# Altium schematic symbol library T_Echo_lite.SchLib: 27 symbols
Pins are listed as number, name and electrical type; pins without a type are passive.

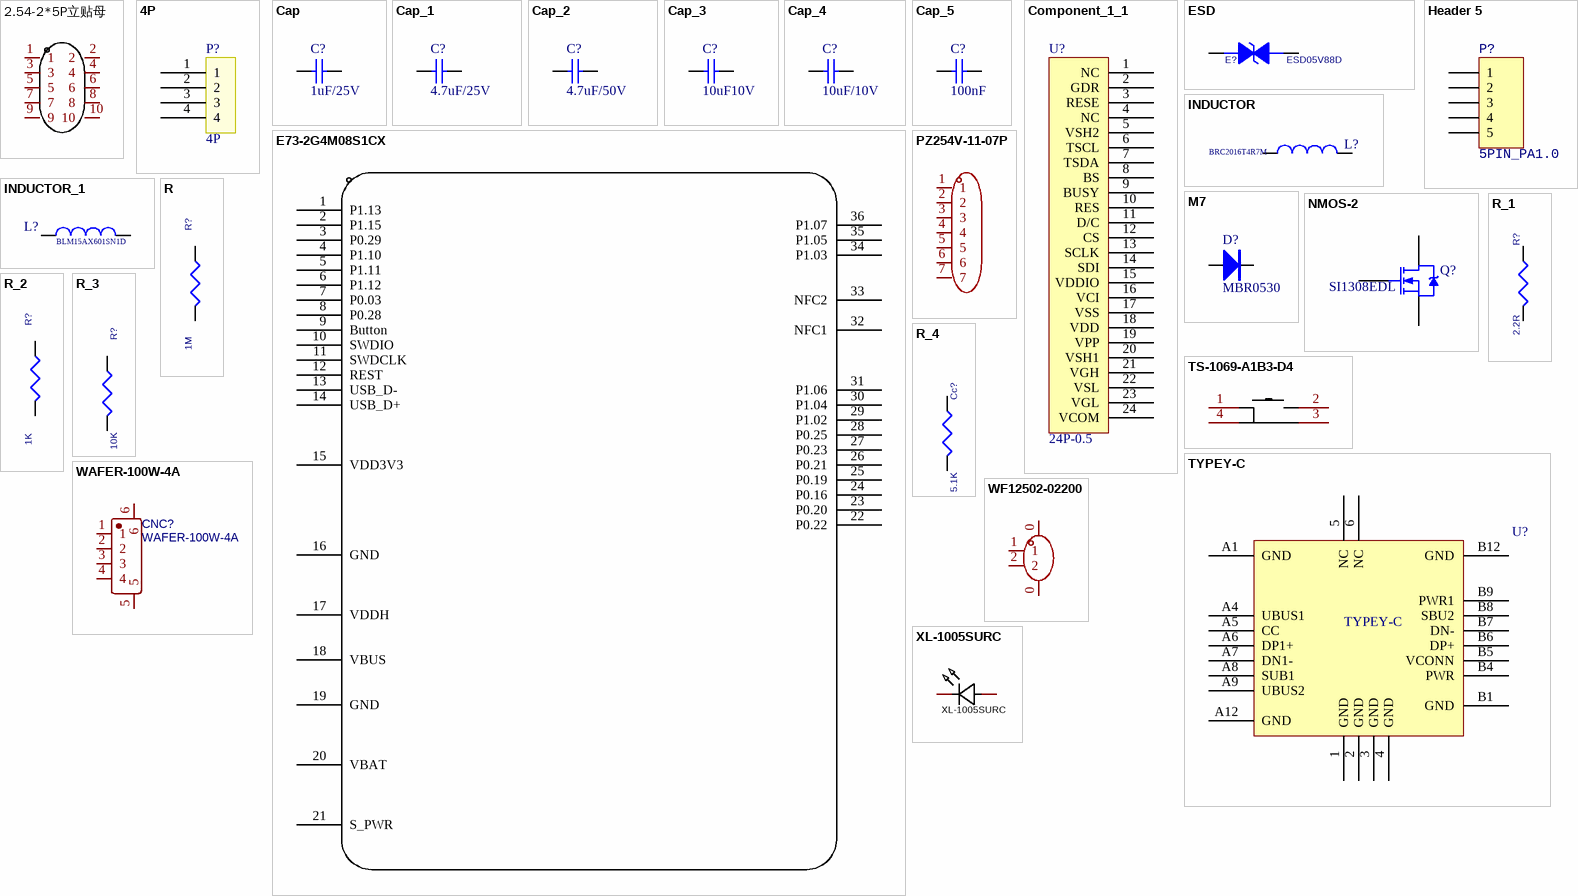
[diagram p0: symbols 2.54-2*5P立贴母 to XL-1005SURC]

## 2.54-2*5P立贴母
designator H?  (value not drawn)
Manufacturer: BOOMELE(博穆精密); Symbol: C843271; Add into BOM: yes; Holes Structure: 2x5P; Pitch: 2.54mm; Circular Hole / Square Hole: 方孔; Number of Holes: 10P; Current Rating (Max): 2.5A; Holes Direction: 顶部; Soldering Temperature(Max): 220℃@10S; Name: 2.54-2*5P立贴母; Device: 2.54-2*5P立贴母; LCSC Part Name: 间距:2.54mm 2x5P 立贴; Supplier Part: C843271; Manufacturer Part: 2.54-2*5P立贴母; Supplier Footprint: SMD,P=2.54mm; JLCPCB Part Class: Extended Part; Datasheet: https://atta.szlcsc.com/upload/public/pdf/source/20180815/C261072_7CA41729AB6C8E669AE33436BB9EABDF.pdf; Supplier: LCSC; Convert to PCB: yes; Row Spacing: 2.54mm; Mounting Type: 立贴; Number of Rows: 双排; Voltage Rating (Max): -; Insulation Height: 8.5mm; Contact Material: 黄铜; Contact Plating: 金; Operating Temperature Range: -55℃~+105℃
footprint CONN-SMD_C843271
3D model CONN-SMD_C843271
footprint CONN-SMD_C843271
pins: 1, 2, 3, 4, 5, 6, 7, 8, 9, 10

## 4P
designator P?
footprint HDR-TH_4P-P2.54-V
footprint HDR-TH_4P-P2.54-V
pins: 1, 2, 3, 4

## Cap
designator C?, comment 1uF/25V
Capacitor; Value: 100pF; Published: 8-Jun-2000; LatestRevisionDate: 17-Jul-2002; LatestRevisionNote: Re-released for DXP Platform.; PackageReference: RAD-0.3; Publisher: Altium Limited
footprint LC-0603_C
footprint LC-0805_C
pins: 1, 2

## Cap_1
designator C?, comment 4.7uF/25V
Capacitor; Value: 100pF; Published: 8-Jun-2000; LatestRevisionDate: 17-Jul-2002; LatestRevisionNote: Re-released for DXP Platform.; PackageReference: RAD-0.3; Publisher: Altium Limited
footprint LC-0603_C
footprint LC-0805_C
pins: 1, 2

## Cap_2
designator C?, comment 4.7uF/50V
Capacitor; Value: 100pF; Published: 8-Jun-2000; LatestRevisionDate: 17-Jul-2002; LatestRevisionNote: Re-released for DXP Platform.; PackageReference: RAD-0.3; Publisher: Altium Limited
footprint LC-0603_C
footprint LC-0805_C
footprint LC-0805_C
pins: 1, 2

## Cap_3
designator C?, comment 10uF10V
Capacitor; Value: 100pF; Published: 8-Jun-2000; LatestRevisionDate: 17-Jul-2002; LatestRevisionNote: Re-released for DXP Platform.; PackageReference: RAD-0.3; Publisher: Altium Limited
footprint LC-0603_C
footprint LC-0402_C
pins: 1, 2

## Cap_4
designator C?, comment 10uF/10V
Capacitor; Value: 100pF; Published: 8-Jun-2000; LatestRevisionDate: 17-Jul-2002; LatestRevisionNote: Re-released for DXP Platform.; PackageReference: RAD-0.3; Publisher: Altium Limited
footprint LC-0603_C
footprint LC-0402_C
pins: 1, 2

## Cap_5
designator C?, comment 100nF
Capacitor; Value: 100pF; Published: 8-Jun-2000; LatestRevisionDate: 17-Jul-2002; LatestRevisionNote: Re-released for DXP Platform.; PackageReference: RAD-0.3; Publisher: Altium Limited
footprint LC-0603_C
footprint LC-0402_C
pins: 1, 2

## Component_1_1
designator U?, comment 24P-0.5
footprint CONN-SMD_24P_0.5K-A-24PBF
footprint FPC-SMD_24P-P0.50_XUNPU_FPC-0.5AD-24PB
pins: 1 NC, 2 GDR, 3 RESE, 4 NC, 5 VSH2, 6 TSCL, 7 TSDA, 8 BS, 9 BUSY, 10 RES, 11 D/C, 12 CS, 13 SCLK, 14 SDI, 15 VDDIO, 16 VCI, 17 VSS, 18 VDD, 19 VPP, 20 VSH1, 21 VGH, 22 VSL, 23 VGL, 24 VCOM

## E73-2G4M08S1CX
designator U??  (value not drawn)
Manufacturer: EBYTE(亿佰特); Add into BOM: yes; Name: E73-2G4M08S1CX; Symbol: E73-2G4M08S1CX; Device: E73-2G4M08S1CX; LCSC Part Name: nRF52840 2.4GHz BLE4.2/5.0 低功耗蓝牙模块 OTA窜升级ARM; Supplier Part: C2764963; Manufacturer Part: E73-2G4M08S1CX; Supplier Footprint: SMD,13x18mm; JLCPCB Part Class: Extended Part; Datasheet: https://atta.szlcsc.com/upload/public/pdf/source/20210402/C2764963_6E10C25D029F526AB984A9EF9E3F423E.pdf; Supplier: LCSC; Convert to PCB: yes
footprint BULETM-SMD_E73-2G4M08S1CX
3D model BULETM-SMD_E73-2G4M08S1CX
footprint NRF52840__ROOOM
footprint NRF52840__ROM
footprint NRF52840__ROOM
footprint T_Ech0_lite_01
footprint T_Ech0_lite
pins: 1 P1.13, 2 P1.15, 3 P0.29, 4 P1.10, 5 P1.11, 6 P1.12, 7 P0.03, 8 P0.28, 9 Button, 10 SWDIO, 11 SWDCLK, 12 REST, 13 USB_D-, 14 USB_D+, 15 VDD3V3, 16 GND, 17 VDDH, 18 VBUS, 19 GND, 20 VBAT, 21 S_PWR, 22 P0.22, 23 P0.20, 24 P0.16, 25 P0.19, 26 P0.21, 27 P0.23, 28 P0.25, 29 P1.02, 30 P1.04, 31 P1.06, 32 NFC1, 33 NFC2, 34 P1.03, 35 P1.05, 36 P1.07

## ESD
designator E?, comment ESD05V88D
footprint LC-0402_R
footprint SOD-882
footprint DFN-SMD_L1.0-W0.6-BI
pins: 1, 2

## Header 5
designator P?, comment 5PIN_PA1.0
Header, 5-Pin; LatestRevisionDate: 17-Jul-2002; LatestRevisionNote: Re-released for DXP Platform.; Publisher: Altium Limited
footprint 5PIN_PA1.0
signal-integrity model Connector
footprint 5PIN_PA1.0
pins: 1, 2, 3, 4, 5

## INDUCTOR
designator L?, comment BRC2016T4R7M
Power Inductor, 4.7uH, 0.7A, 260mR DCR; XMOS Part Number: E-09-0011; Manufacturer: Taiyo Yuden; Manufacturer Part Number: CBC2518T4R7M; Part Creator: JG; LEVEL: STD; DEVICE: L; FORWARD_PCB: 1; Tolerance (%): 20; Max DC Resistance: 0.26R; Rated Current (Saturation): 0.68A; Rated Current (Temp Rise): 0.92A; Approx Volume Cost ($): 0.07; Approved: NO; VALUE: 2.0nH; Datasheet: http://www.yuden.co.jp/us/product/pdf/ecb2_e.pdf; Max Height (mm): 2; Digikey Link: http://search.digikey.com/scripts/DkSearch/dksus.dll?lang=en&site=US&keywords=CBC2518T4R7M
footprint 0806
footprint 0806
pins: 1 P1, 2 P2

## INDUCTOR_1
designator L?, comment BLM15AX601SN1D
Power Inductor, 4.7uH, 0.7A, 260mR DCR; XMOS Part Number: E-09-0011; Manufacturer: Taiyo Yuden; Manufacturer Part Number: CBC2518T4R7M; Part Creator: JG; LEVEL: STD; DEVICE: L; FORWARD_PCB: 1; Tolerance (%): 20; Max DC Resistance: 0.26R; Rated Current (Saturation): 0.68A; Rated Current (Temp Rise): 0.92A; Approx Volume Cost ($): 0.07; Approved: NO; VALUE: 2.0nH; Datasheet: http://www.yuden.co.jp/us/product/pdf/ecb2_e.pdf; Max Height (mm): 2; Digikey Link: http://search.digikey.com/scripts/DkSearch/dksus.dll?lang=en&site=US&keywords=CBC2518T4R7M
footprint LC-0603_R
footprint LC-0603_L
footprint LC-0402_L
footprint LC-0402_L
footprint LC-0603_L
footprint LC-0402_L
footprint LC-0603_L
pins: 1 P1, 2 P2

## M7
designator D?, comment MBR0530
footprint LC-SOD-323
pins: 1 A, 2 K

## NMOS-2
designator Q?, comment SI1308EDL
N-Channel Power MOSFET; Note: Pin 2 is electrically connected to pin 4.; Published: 8-Jun-2000; LatestRevisionDate: 17-Jul-2002; LatestRevisionNote: Re-released for DXP Platform.; DatasheetVersion: PD-9.814; PackageVersion: Feb-1997; PackageReference: TO-220AB; Publisher: Altium Limited; PackageDescription: TO, Thru-Hole, Vertical, Heatsink Mounted; 3 In-Line Leads; Pitch 2.54 mm; ComponentLink1Description: Manufacturer Link; ComponentLink1URL: http://www.irf.com/
footprint SOT-323_L2.0-W1.3-P1.30-LS2.1-BR
footprint SOT-323_L2.0-W1.3-P1.30-LS2.1-BR
pins: 1 G, 2 S, 3 D

## PZ254V-11-07P
designator H?  (value not drawn)
Manufacturer: XFCN(兴飞); Add into BOM: yes; Pin Structure: 1x7P; Pitch: 2.54mm; Circluar Pins/Square Pins: 方针; Symbol: PZ254V-11-07P; Device: PZ254V-11-07P; LCSC Part Name: 间距:2.54mm 1x7P 直插 方针; Supplier Part: C492406; Manufacturer Part: PZ254V-11-07P; Supplier Footprint: 插件,P=2.54mm; JLCPCB Part Class: Extended Part; Datasheet: https://atta.szlcsc.com/upload/public/pdf/source/20200309/C492406_654C533EE691117E22DD9F76C114C2D9.pdf; Supplier: LCSC; Convert to PCB: yes; Row Spacing: -; Mounting Type: 直插; Number of Rows: 单排; Number of Pins: 7P; Current Rating (Max): -; Voltage Rating (Max): -; Length of Mating Pin: 6mm; Insulation Height: 2.5mm; Length of End Connection Pin: 3mm; Contact Material: 黄铜; Contact Plating: -; Operating Temperature Range: -40℃~+105℃; Color: 黑色
footprint HDR-TH_7P-P2.54-V-M
footprint HDR-TH_7P-P1.27-V-F
footprint 7P-1.27立式贴片
pins: 1, 2, 3, 4, 5, 6, 7

## R
designator R?, comment 1M
footprint LC-0402_R
footprint LC-0402_R
pins: 1, 2

## R_1
designator R?, comment 2.2R
footprint LC-0402_R
footprint LC-0402_R
pins: 1, 2

## R_2
designator R?, comment 1K
footprint LC-0402_R
footprint LC-0402_R
pins: 1, 2

## R_3
designator R?, comment 10K
footprint LC-0402_R
footprint LC-0402_R
pins: 1, 2

## R_4
designator Cc?, comment 5.1K
footprint LC-0402_R
footprint LC-0402_R
pins: 1, 2

## TS-1069-A1B3-D4
designator SW?  (value not drawn)
Manufacturer: Yuandi(元迪); Add into BOM: yes; Circuit: 单刀单掷; Actuator Style: 圆形按钮; Operating Force: 250gf; Switch Length: 4.8mm; Switch Width: 3.8mm; Switch Height: 3.5mm; Name: TS-1069-A1B3-D4; Symbol: TS-1069-A1B3-D4; Device: TS-1069-A1B3-D4; LCSC Part Name: 轻触开关4.5*3.8*3.5mm沉板式笑脸开关侧按250gf; Supplier Part: C492881; Manufacturer Part: TS-1069-A1B3-D4; Supplier Footprint: -; JLCPCB Part Class: Extended Part; Datasheet: https://atta.szlcsc.com/upload/public/pdf/source/20200316/C492881_07AA5C9C1CC10F743C48518EEB96784E.pdf; Supplier: LCSC; Convert to PCB: yes; Mounting Style: -; With Lamp: -; Mechanical Life: -
footprint KEY-SMD_TS-1069-A1B3-D4
3D model KEY-SMD_TS-1069-A1B3-D4
footprint KEY-SMD_TS-1069-A1B3-D4
footprint KEY-SMD_TS-1069-A1B3-D4
pins: 1, 2, 3, 4

## TYPEY-C
designator U?
footprint TYPE-C3.0
footprint TYPE-C3.2
footprint TYPE-C3.0
pins: 1 GND, 2 GND, 3 GND, 4 GND, 5 NC, 6 NC, A1 GND, A4 UBUS1, A5 CC, A6 DP1+, A7 DN1-, A8 SUB1, A9 UBUS2, A12 GND, B1 GND, B4 PWR, B5 VCONN, B6 DP+, B7 DN-, B8 SBU2, B9 PWR1, B12 GND

## WAFER-100W-4A
designator CNC?
Contributor: LCSC; BOM_Supplier: LCSC; BOM_Supplier Part: C2874471; BOM_Manufacturer Part: WAFER-100W-4A; BOM_JLCPCB Part Class: Extended Part; spicePre: C; spiceSymbolName: WAFER-100W-4A
footprint CONN-SMD_4P-P1.00_XUNPU_WAFER-100W-4P
footprint CONN-SMD_4P-P1.00_WAFER-SH1.0-4PWB
pins: 1, 2, 3, 4, 5, 6

## WF12502-02200
designator CN?  (value not drawn)
Manufacturer: ATOM(爱特姆); Add into BOM: yes; Pins Structure: 1x2P; Pitch: 1.25mm; Number of PINs Per Row: 2; Current Rating (Max): 1A; Symbol: WF12502-02200; Device: WF12502-02200; LCSC Part Name: 1x2P 间距:1.25mm 立贴; Supplier Part: C479980; Manufacturer Part: WF12502-02200; Supplier Footprint: SMD,P=1.25mm; JLCPCB Part Class: Extended Part; Datasheet: https://atta.szlcsc.com/upload/public/pdf/source/20200107/C479980_0BFF3FEF69F160CFF2FF8CFF2CDC3F81.pdf; Supplier: LCSC; Convert to PCB: yes; Mounting Style: 立贴; Reference Series: -; Number of Pins: 2P; Number of Rows: 1; Row Spacing: -; Operating Temperature Range: -25℃~+85℃
footprint CONN-SMD_2P-P1.25_L4.2-W7.5
footprint CONN-SMD_2P-P1.25_L4.2-W7.5
pins: 0, 0, 1, 2

## XL-1005SURC
designator LED1-GREEN?
Manufacturer: XINGLIGHT(成兴光); Add into BOM: yes; Emitted Color: 红色; Power Dissipation: 55mW; Forward Current: 25mA; Dominant Wavelength: 620nm; Peak Wavelength: 625nm; Lens Color: 无色透明透镜; Color Temperature: 6000K~7000K; Viewing Angle: 120°; Mounting Sytle: 正贴; Name: XL-1005SURC; Symbol: XL-1005SURC; Device: XL-1005SURC; LCSC Part Name: XL-1005SURC; Supplier Part: C965790; Manufacturer Part: XL-1005SURC; Supplier Footprint: 0402; JLCPCB Part Class: Extended Part; Datasheet: https://atta.szlcsc.com/upload/public/pdf/source/20221102/EBA3AB29C2D5B62EE70B36967F8F8809.pdf; Supplier: LCSC; Convert to PCB: yes; Operating Temperature: -30℃~+85℃
footprint LED0402-R-RD_RED
3D model LED0402_L1.0-W0.5-H0.4
footprint LED0402-RD
pins: 1 K, 2 A